# EAGLE library part FIN-40.61 (library oli)
Relais 1 Wechsler, 16 A Finder Serie 40 - Steck-/Print-Relais Typ 40.61, Reichelt Best. FIN 40.61.9.x
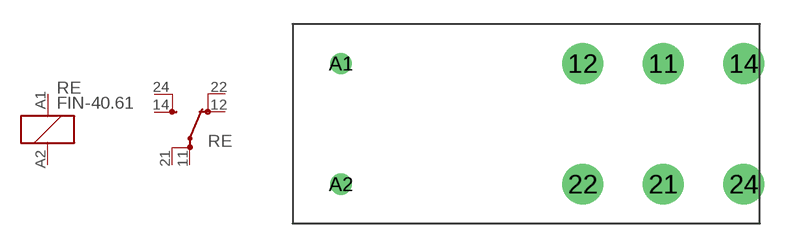
[diagram p7: symbol with the pads of FIN-40.61; footprint FIN-40.61]

Designator prefix RE; gates G$1=RELAY-K G$2=RELAY-U-X2

## FIN-40.61  [FIN-40.61]
11  G$2:PA  pas
12  G$2:OA  pas
14  G$2:SA  pas
21  G$2:PB  pas
22  G$2:OB  pas
24  G$2:SB  pas
A1  G$1:1  pas
A2  G$1:2  pas

## Footprint FIN-40.61 (pad centres in mm)
drill 1.2 pad 2.54: 11 20,3.75; 12 15,3.75; 14 25,3.75; 21 20,-3.75; 22 15,-3.75; 24 25,-3.75
drill 0.8: A1 0,3.75; A2 0,-3.75